# EAGLE library part GTL2003 (library gtl2003)
8-bit bidirectional low voltage translator
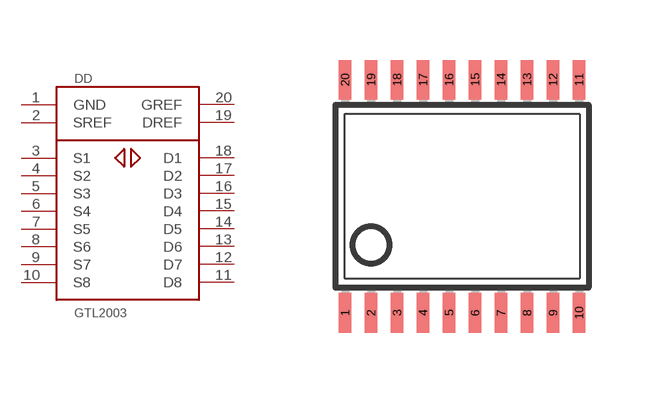
[diagram p0: symbol with the pads of TSSOP20; footprint TSSOP20]

Designator prefix DD

## GTL2003PW  [TSSOP20]
1  GND  pwr
2  SREF  in
3  S1
4  S2
5  S3
6  S4
7  S5
8  S6
9  S7
10  S8
11  D8
12  D7
13  D6
14  D5
15  D4
16  D3
17  D2
18  D1
19  DREF  in
20  GREF  in

## Footprint TSSOP20 (pad centres in mm)
Thin Shrink Small Outline Plastic 20 MAX3223-MAX3243.pdf
smd 0.305 x 0.991: 1 -2.925,-2.918; 2 -2.275,-2.918; 3 -1.625,-2.918; 4 -0.975,-2.918; 5 -0.325,-2.918; 6 0.325,-2.918; 7 0.975,-2.918; 8 1.625,-2.918; 9 2.275,-2.918; 10 2.925,-2.918; 11 2.925,2.918; 12 2.275,2.918; 13 1.625,2.918; 14 0.975,2.918; 15 0.325,2.918; 16 -0.325,2.918; 17 -0.975,2.918; 18 -1.625,2.918; 19 -2.275,2.918; 20 -2.925,2.918